# Altium footprint library Mosfet.PcbLib: 1 footprints
Each footprint in its own frame and in the unit in brackets; x right, y up, seen from the top. Pads: shape width x height; smd on the part's side, far side on the other; paste and mask are expansions set on the pad; w line width, h text height; cw(c..) or ccw(c..) is an arc to the next point about the centre after c.
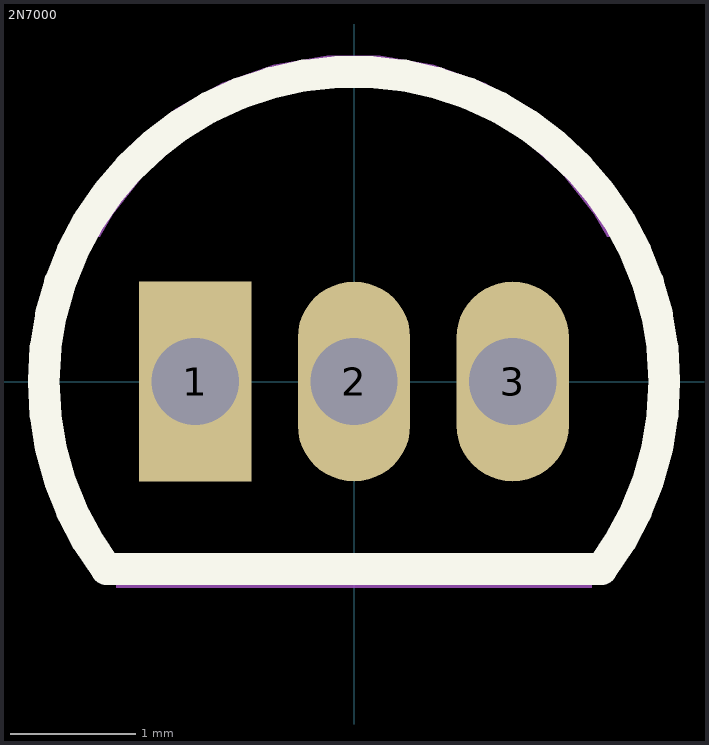
[diagram p0: the footprint, top view; thin cyan lines are the x and y axes]

## 2N7000 [mm]
pads (3):
  rect 0.9x1.6 hole 0.7 paste-2539.97 mask+0.051: 1(-1.27,0)
  oval 0.9x1.6 hole 0.7 paste-2539.97 mask+0.051: 2(0,0) 3(1.27,0)
Top Overlay:
  lines w0.254: -1.981,-1.501 cw(c0,-0.003) 1.981,-1.501 ; -1.98,-1.5 1.98,-1.5
Mechanical 15:
  region: -2.29,1.16 -2.036,1.16 -1.931,1.339 -1.674,1.664 -1.363,1.938 -1.007,2.152 -0.619,2.299 -0.211,2.373 0.203,2.373 0.611,2.299 0.999,2.152 1.355,1.938 1.666,1.664 1.923,1.339 2.028,1.16 2.282,1.16 2.155,1.414 2.041,1.596 1.754,1.917 1.418,2.185 1.041,2.393 0.635,2.535 0.211,2.607 -0.219,2.607 -0.643,2.535 -1.049,2.393 -1.426,2.185 -1.762,1.917 -2.049,1.596 -2.163,1.414
  region: -1.905,-1.397 1.905,-1.397 1.905,-1.651 -1.905,-1.651
3D body "TO-92.STEP": height 5.6, standoff -2.01, extent -2.3,-1.3 2.3,2.3